# EAGLE library part KK156-09 (library con-molex-kk)
HEADER
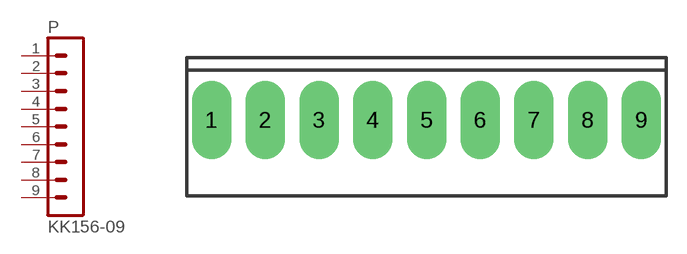
[diagram p166: symbol with the pads of KK156-09; footprint KK156-09]

Designator prefix P

## KK156-09  [KK156-09]
1  1  pas
2  2  pas
3  3  pas
4  4  pas
5  5  pas
6  6  pas
7  7  pas
8  8  pas
9  9  pas

## Footprint KK156-09 (pad centres in mm)
HEADER - 0.156" SPOX 5273 Series
drill 1.93 long: 1 -15.85,0; 2 -11.887,0; 3 -7.925,0; 4 -3.962,0; 5 0,0; 6 3.962,0; 7 7.925,0; 8 11.887,0; 9 15.85,0